# EAGLE library part LTV-845S (library SamacSys_Parts)
Optocoupler Source: Datasheet <http://optoelectronics.liteon.com/upload/download/DS-70-96-0015/LTV-8X5 series 1015.pdf>
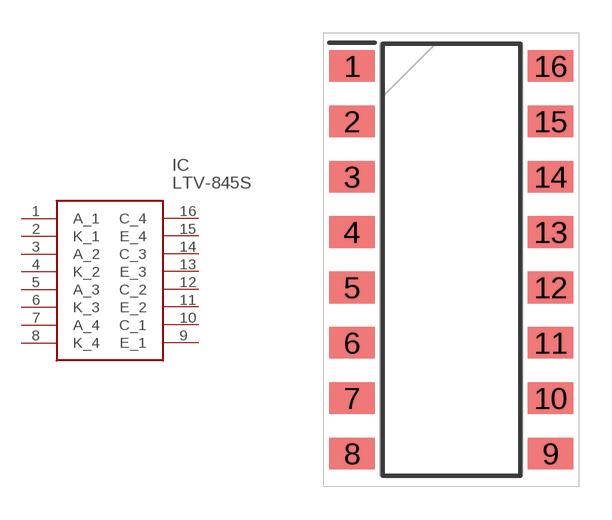
[diagram p9: symbol with the pads of SOP254P1016X460-16N; footprint SOP254P1016X460-16N]

Designator prefix IC

## LTV-845S (DESCRIPTION: Optocoupler; HEIGHT: 4.6mm; MANUFACTURER_NAME: Lite-On; MANUFACTURER_PART_NUMBER: LTV-845S; MOUSER_PART_NUMBER: 859-LTV-845S; MOUSER_PRICE-STOCK: https://www.mouser.co.uk/ProductDetail/Lite-On/LTV-845S?qs=DDUfrI2xFANTV7EYgDN%2FSA%3D%3D)  [SOP254P1016X460-16N]
1  A_1
2  K_1
3  A_2
4  K_2
5  A_3
6  K_3
7  A_4
8  K_4
9  E_1
10  C_1
11  E_2
12  C_2
13  E_3
14  C_3
15  E_4
16  C_4

## Footprint SOP254P1016X460-16N (pad centres in mm)
LTV-845S_A
smd 2.1 x 1.45: 1 -4.55,8.89; 2 -4.55,6.35; 3 -4.55,3.81; 4 -4.55,1.27; 5 -4.55,-1.27; 6 -4.55,-3.81; 7 -4.55,-6.35; 8 -4.55,-8.89; 9 4.55,-8.89; 10 4.55,-6.35; 11 4.55,-3.81; 12 4.55,-1.27; 13 4.55,1.27; 14 4.55,3.81; 15 4.55,6.35; 16 4.55,8.89